# Altium footprint library WCAP-FTDB.PcbLib: 13 footprints
Each footprint in its own frame and in the unit in brackets; x right, y up, seen from the top. Pads: shape width x height; smd on the part's side, far side on the other; paste and mask are expansions set on the pad; w line width, h text height; cw(c..) or ccw(c..) is an arc to the next point about the centre after c.
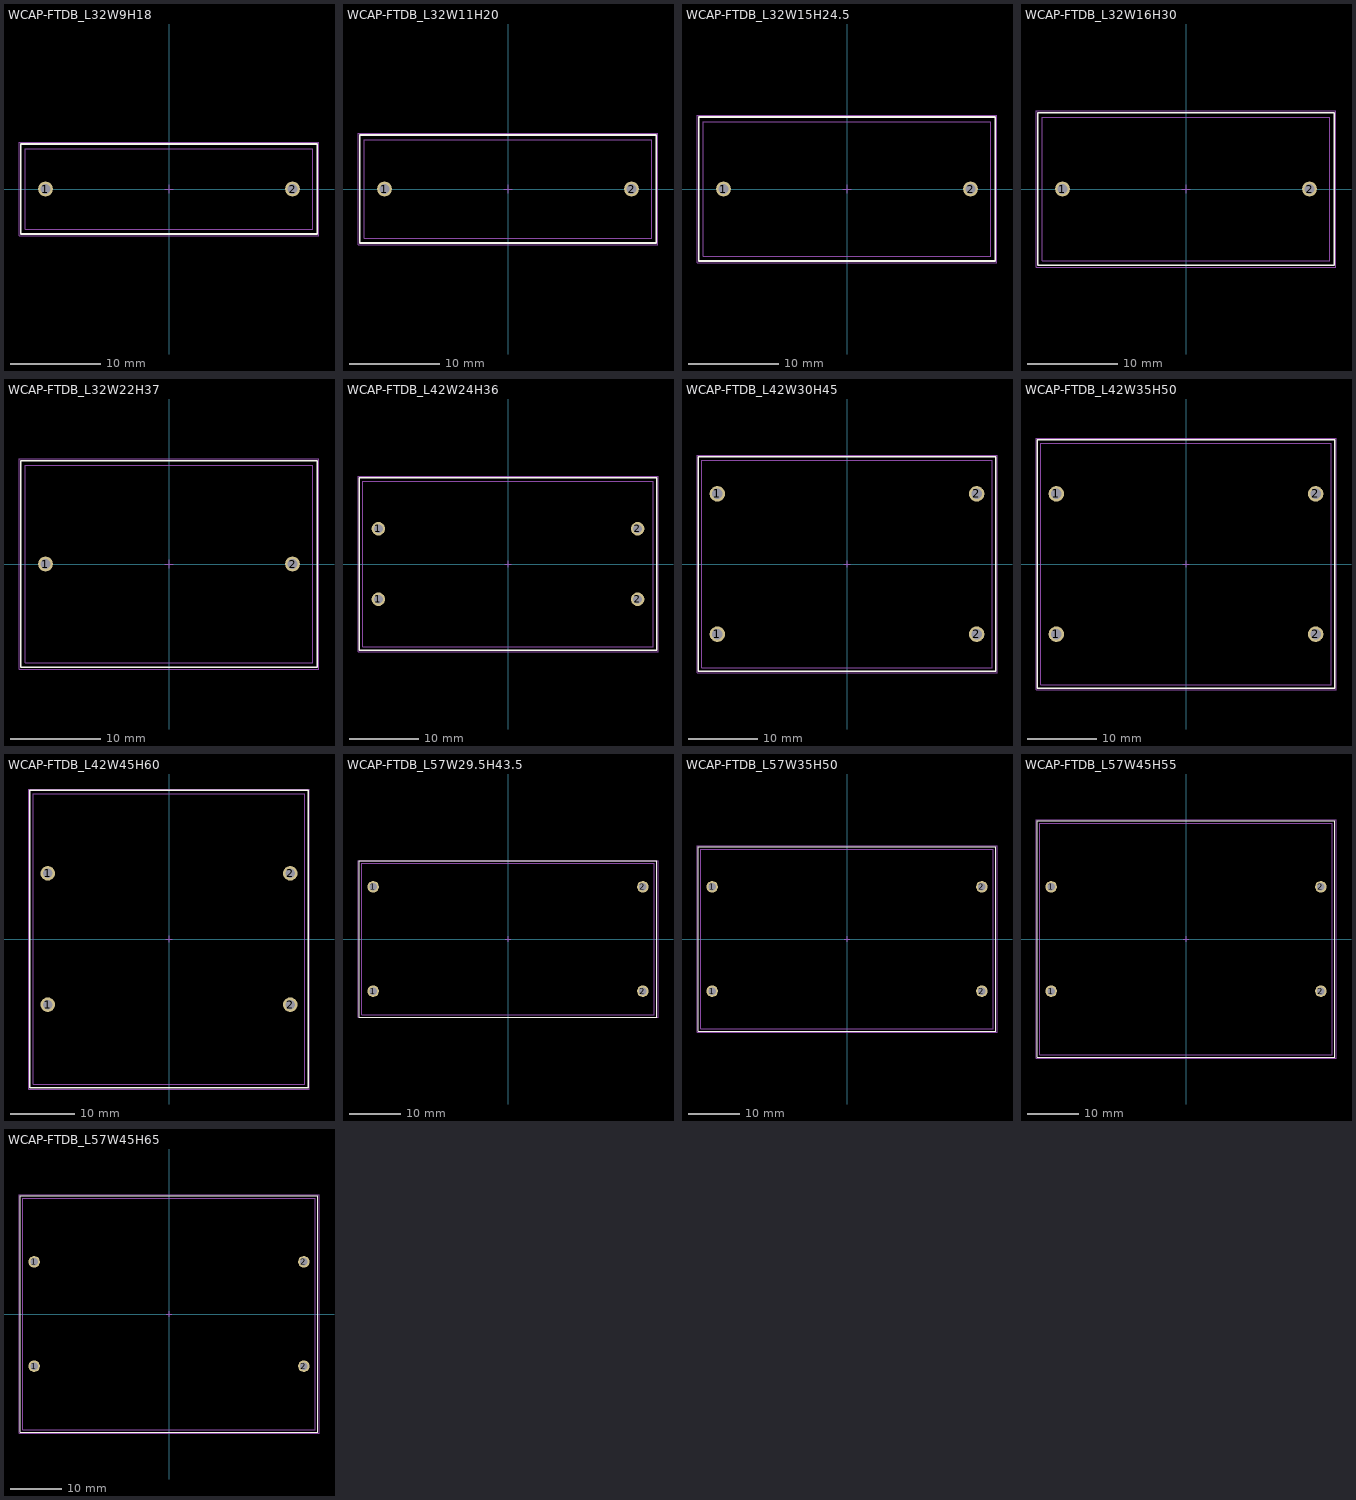
[diagram p0: the footprints below, top view; thin cyan lines are the x and y axes]

## WCAP-FTDB_L32W9H18 [mm] "Film Capacitor, THT, body 32.00x9.00mm"
height 18
pads (2):
  round 1.65 hole 1.1: 1(-13.75,0) 2(13.75,0)
Top Overlay:
  lines w0.2: -16.5,-5 16.5,-5 16.5,5 -16.5,5 -16.5,-5
Top Designator:
  text ".Designator" at -7.498,-0.5 h1.5
Top Component Outline:
  lines w0.1: -16,-4.5 16,-4.5 16,4.5 -16,4.5 -16,-4.5
Top 3D Body:
  lines w0.1: -16,-4.5 16,-4.5 16,4.5 -16,4.5 -16,-4.5
Top Courtyard:
  lines w0.05: -0.5,0 0.5,0 ; 0,-0.5 0,0.5 ; -16.7,-5.2 16.7,-5.2 16.7,5.2 -16.7,5.2 -16.7,-5.2
3D body "27,5x32x9x18.stp": height 18, standoff -4, extent -16,-4.5 16,4.5

## WCAP-FTDB_L32W11H20 [mm] "Film Capacitor, THT, body 32.00x11.00mm"
height 20
pads (2):
  round 1.65 hole 1.1: 1(-13.75,0) 2(13.75,0)
Top Overlay:
  lines w0.2: -16.5,-6 16.5,-6 16.5,6 -16.5,6 -16.5,-6
Top Designator:
  text ".Designator" at -7.498,-0.5 h1.5
Top Component Outline:
  lines w0.1: -16,-5.5 16,-5.5 16,5.5 -16,5.5 -16,-5.5
Top 3D Body:
  lines w0.1: -16,-5.5 16,-5.5 16,5.5 -16,5.5 -16,-5.5
Top Courtyard:
  lines w0.05: -0.5,0 0.5,0 ; 0,-0.5 0,0.5 ; -16.7,-6.2 16.7,-6.2 16.7,6.2 -16.7,6.2 -16.7,-6.2
3D body "27,5x32x11x20.stp": height 20, standoff -3.6, extent -16,-5.5 16,5.5

## WCAP-FTDB_L32W15H24.5 [mm] "Film Capacitor, THT, body 32.00x15.00mm"
height 24.5
pads (2):
  round 1.65 hole 1.1: 1(-13.75,0) 2(13.75,0)
Top Overlay:
  lines w0.2: -16.5,-8 16.5,-8 16.5,8 -16.5,8 -16.5,-8
Top Designator:
  text ".Designator" at -7.498,-0.5 h1.5
Top Component Outline:
  lines w0.1: -16,-7.5 16,-7.5 16,7.5 -16,7.5 -16,-7.5
Top 3D Body:
  lines w0.1: -16,-7.5 16,-7.5 16,7.5 -16,7.5 -16,-7.5
Top Courtyard:
  lines w0.05: -0.5,0 0.5,0 ; 0,-0.5 0,0.5 ; -16.7,-8.2 16.7,-8.2 16.7,8.2 -16.7,8.2 -16.7,-8.2
3D body "27,5x32x15x24,5.stp": height 24.5, standoff -4.15, extent -16,-7.5 16,7.5

## WCAP-FTDB_L32W16H30 [mm] "Film Capacitor, THT, body 32.00x16.00mm"
height 30
pads (2):
  round 1.65 hole 1.1: 1(-13.75,0) 2(13.75,0)
Top Overlay:
  lines w0.2: -16.5,-8.5 -16.5,8.5 16.5,8.5 16.5,-8.5 -16.5,-8.5
Top Designator:
  text ".Designator" at -7.498,-0.5 h1.5
Top Component Outline:
  lines w0.1: -16,-8 -16,8 16,8 16,-8 -16,-8
Top 3D Body:
  lines w0.1: -16,-8 -16,8 16,8 16,-8 -16,-8
Top Courtyard:
  lines w0.05: -0.5,0 0.5,0 ; 0,-0.5 0,0.5 ; -16.7,-8.7 -16.7,8.7 16.7,8.7 16.7,-8.7 -16.7,-8.7
3D body "27,5x32x16x30.stp": height 30, standoff -4.15, extent -16,-8 16,8

## WCAP-FTDB_L32W22H37 [mm] "Film Capacitor, THT, body 32.00x22.00mm"
height 37
pads (2):
  round 1.65 hole 1.1: 1(-13.75,0) 2(13.75,0)
Top Overlay:
  lines w0.2: -16.5,-11.5 -16.5,11.5 16.5,11.5 16.5,-11.5 -16.5,-11.5
Top Designator:
  text ".Designator" at -7.498,-0.5 h1.5
Top Component Outline:
  lines w0.1: -16,-11 -16,11 16,11 16,-11 -16,-11
Top 3D Body:
  lines w0.1: -16,-11 -16,11 16,11 16,-11 -16,-11
Top Courtyard:
  lines w0.05: -0.5,0 0.5,0 ; 0,-0.5 0,0.5 ; -16.7,-11.7 -16.7,11.7 16.7,11.7 16.7,-11.7 -16.7,-11.7
3D body "27,5x32x22x37.stp": height 37, standoff -4.15, extent -16,-11 16,11

## WCAP-FTDB_L42W24H36 [mm] "Film Capacitor, THT, body 42.00x24.00mm"
height 36
pads (4):
  round 1.95 hole 1.3: 1(-18.75,-5.1) 1(-18.75,5.1) 2(18.75,-5.1) 2(18.75,5.1)
Top Overlay:
  lines w0.2: -21.5,-12.5 21.5,-12.5 21.5,12.5 -21.5,12.5 -21.5,-12.5
Top Designator:
  text ".Designator" at -7.498,-0.5 h1.5
Top Component Outline:
  lines w0.1: -21,-12 21,-12 21,12 -21,12 -21,-12
Top 3D Body:
  lines w0.1: -21,-12 21,-12 21,12 -21,12 -21,-12
Top Courtyard:
  lines w0.05: -0.5,0 0.5,0 ; 0,-0.5 0,0.5 ; -21.7,-12.7 21.7,-12.7 21.7,12.7 -21.7,12.7 -21.7,-12.7
3D body "37,5x42x24x36.stp": height 36, standoff -4, extent -21,-12 21,12

## WCAP-FTDB_L42W30H45 [mm] "Film Capacitor, THT, body 42.00x30.00mm"
height 45
pads (4):
  round 2.25 hole 1.5: 1(-18.75,-10.15) 1(-18.75,10.15) 2(18.75,-10.15) 2(18.75,10.15)
Top Overlay:
  lines w0.2: -21.5,-15.5 -21.5,15.5 21.5,15.5 21.5,-15.5 -21.5,-15.5
Top Designator:
  text ".Designator" at -7.498,-0.5 h1.5
Top Component Outline:
  lines w0.1: -21,-15 -21,15 21,15 21,-15 -21,-15
Top 3D Body:
  lines w0.1: -21,-15 -21,15 21,15 21,-15 -21,-15
Top Courtyard:
  lines w0.05: -0.5,0 0.5,0 ; 0,-0.5 0,0.5 ; -21.7,-15.7 -21.7,15.7 21.7,15.7 21.7,-15.7 -21.7,-15.7
3D body "37,5x42x30x45.stp": height 45, standoff -4, extent -21,-15 21,15

## WCAP-FTDB_L42W35H50 [mm] "Film Capacitor, THT, body 42.00x35.00mm"
height 50
pads (4):
  round 2.25 hole 1.5: 1(-18.75,-10.15) 1(-18.75,10.15) 2(18.75,-10.15) 2(18.75,10.15)
Top Overlay:
  lines w0.2: -21.5,-18 -21.5,18 21.5,18 21.5,-18 -21.5,-18
Top Designator:
  text ".Designator" at -7.498,-0.5 h1.5
Top Component Outline:
  lines w0.1: -21,-17.5 -21,17.5 21,17.5 21,-17.5 -21,-17.5
Top 3D Body:
  lines w0.1: -21,-17.5 -21,17.5 21,17.5 21,-17.5 -21,-17.5
Top Courtyard:
  lines w0.05: -0.5,0 0.5,0 ; 0,-0.5 0,0.5 ; -21.7,-18.2 -21.7,18.2 21.7,18.2 21.7,-18.2 -21.7,-18.2
3D body "37,5x42x35x50.stp": height 50, standoff -4, extent -21,-17.5 21,17.5

## WCAP-FTDB_L42W45H60 [mm] "Film Capacitor, THT, body 42.00x45.00mm"
height 60
pads (4):
  round 2.25 hole 1.5: 1(-18.75,-10.15) 1(-18.75,10.15) 2(18.75,-10.15) 2(18.75,10.15)
Top Overlay:
  lines w0.2: -21.5,-23 21.5,-23 21.5,23 -21.5,23 -21.5,-23
Top Designator:
  text ".Designator" at -7.498,-0.5 h1.5
Top Component Outline:
  lines w0.1: -21,-22.5 21,-22.5 21,22.5 -21,22.5 -21,-22.5
Top 3D Body:
  lines w0.1: -21,-22.5 21,-22.5 21,22.5 -21,22.5 -21,-22.5
Top Courtyard:
  lines w0.05: -0.5,0 0.5,0 ; 0,-0.5 0,0.5 ; -21.7,-23.2 21.7,-23.2 21.7,23.2 -21.7,23.2 -21.7,-23.2
3D body "37,5x42x45x60.stp": height 60.01, standoff -3.99, extent -21,-22.5 21,22.5

## WCAP-FTDB_L57W29.5H43.5 [mm] "Film Capacitor, THT, body 57.00x29.50mm"
height 43.5
pads (4):
  round 2.25 hole 1.5: 1(-26.25,-10.15) 1(-26.25,10.15) 2(26.25,-10.15) 2(26.25,10.15)
Top Overlay:
  lines w0.2: -29,-15.25 29,-15.25 29,15.25 -29,15.25 -29,-15.25
Top Designator:
  text ".Designator" at -7.498,-0.5 h1.5
Top Component Outline:
  lines w0.1: -28.5,-14.75 28.5,-14.75 28.5,14.75 -28.5,14.75 -28.5,-14.75
Top 3D Body:
  lines w0.1: -28.5,-14.75 28.5,-14.75 28.5,14.75 -28.5,14.75 -28.5,-14.75
Top Courtyard:
  lines w0.05: -0.5,0 0.5,0 ; 0,-0.5 0,0.5 ; -29.2,-15.25 29.2,-15.25 29.2,15.25 -29.2,15.25 -29.2,-15.25
3D body "52,5x57x29,5x43,5.stp": height 43.5, standoff -4.15, extent -28.5,-14.75 28.5,14.75

## WCAP-FTDB_L57W35H50 [mm] "Film Capacitor, THT, body 57.00x35.00mm"
height 50
pads (4):
  round 2.25 hole 1.5: 1(-26.25,-10.15) 1(-26.25,10.15) 2(26.25,-10.15) 2(26.25,10.15)
Top Overlay:
  lines w0.2: -29,-18 29,-18 29,18 -29,18 -29,-18
Top Designator:
  text ".Designator" at -7.498,-0.5 h1.5
Top Component Outline:
  lines w0.1: -28.5,-17.5 28.5,-17.5 28.5,17.5 -28.5,17.5 -28.5,-17.5
Top 3D Body:
  lines w0.1: -28.5,-17.5 28.5,-17.5 28.5,17.5 -28.5,17.5 -28.5,-17.5
Top Courtyard:
  lines w0.05: -0.5,0 0.5,0 ; 0,-0.5 0,0.5 ; -29.2,-18.2 29.2,-18.2 29.2,18.2 -29.2,18.2 -29.2,-18.2
3D body "52,5x57x35x50.stp": height 50, standoff -4.15, extent -28.5,-17.5 28.5,17.5

## WCAP-FTDB_L57W45H55 [mm] "Film Capacitor, THT, body 57.00x45.00mm"
height 55
pads (4):
  round 2.25 hole 1.5: 1(-26.25,-10.15) 1(-26.25,10.15) 2(26.25,-10.15) 2(26.25,10.15)
Top Overlay:
  lines w0.2: -29,-23 -29,23 29,23 29,-23 -29,-23
Top Designator:
  text ".Designator" at -7.498,-0.5 h1.5
Top Component Outline:
  lines w0.1: -28.5,-22.5 -28.5,22.5 28.5,22.5 28.5,-22.5 -28.5,-22.5
Top 3D Body:
  lines w0.1: -28.5,-22.5 -28.5,22.5 28.5,22.5 28.5,-22.5 -28.5,-22.5
Top Courtyard:
  lines w0.05: -0.5,0 0.5,0 ; 0,-0.5 0,0.5 ; -29.2,-23.2 -29.2,23.2 29.2,23.2 29.2,-23.2 -29.2,-23.2
3D body "52,5x57x45x55.stp": height 55, standoff -4, extent -28.5,-22.5 28.5,22.5

## WCAP-FTDB_L57W45H65 [mm] "Film Capacitor, THT, body 57.00x45.00mm"
height 65
pads (4):
  round 2.25 hole 1.5: 1(-26.25,-10.15) 1(-26.25,10.15) 2(26.25,-10.15) 2(26.25,10.15)
Top Overlay:
  lines w0.2: -29,-23 -29,23 29,23 29,-23 -29,-23
Top Designator:
  text ".Designator" at -7.498,-0.5 h1.5
Top Component Outline:
  lines w0.1: -28.5,-22.5 -28.5,22.5 28.5,22.5 28.5,-22.5 -28.5,-22.5
Top 3D Body:
  lines w0.1: -28.5,-22.5 -28.5,22.5 28.5,22.5 28.5,-22.5 -28.5,-22.5
Top Courtyard:
  lines w0.05: -0.5,0 0.5,0 ; 0,-0.5 0,0.5 ; -29.2,-23.2 -29.2,23.2 29.2,23.2 29.2,-23.2 -29.2,-23.2
3D body "52,5x57x45x65.stp": height 65, standoff -4, extent -28.5,-22.5 28.5,22.5